# EAGLE library part USB_TYPE-C (library PP_Connectors)
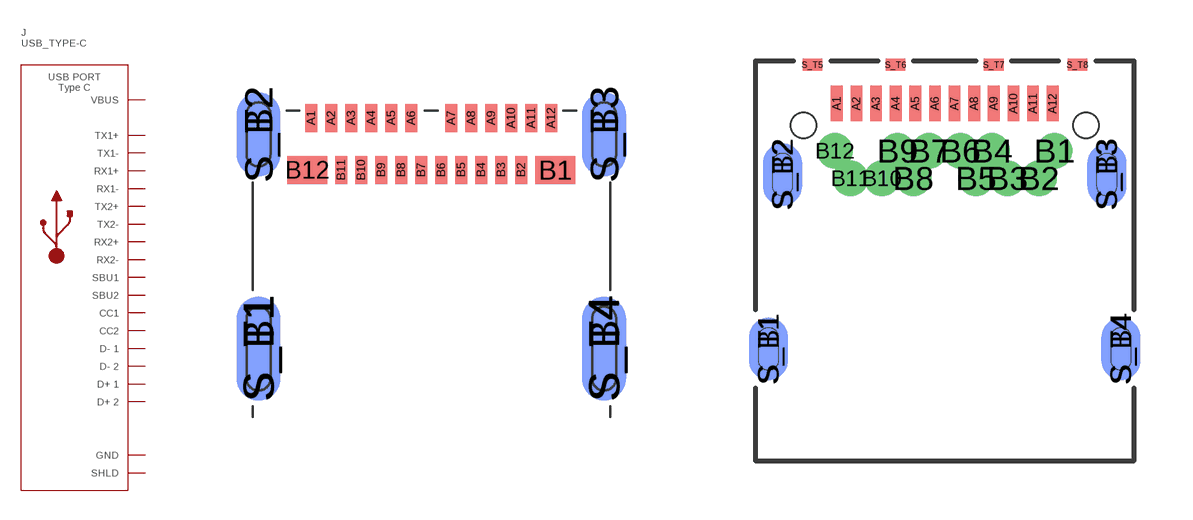
[diagram p24: symbol with the pads of 105450-0101; footprints 105450-0101, 10137061-00021LF]

Designator prefix J

## USB_TYPE-C_105450-0101 (POPULATE: 1)  [105450-0101]
A1  GND
A2  TX1+
A3  TX1-
A4  VBUS
A5  CC1
A6  D+1
A7  D-1
A8  SBU1
A9  VBUS
A10  RX2-
A11  RX2+
A12  GND
B1  GND
B2  TX2+
B3  TX2-
B4  VBUS
B5  CC2
B6  D+2
B7  D-2
B8  SBU2
B9  VBUS
B10  RX1-
B11  RX1+
B12  GND
S_T1  SHLD
S_T2  SHLD
S_T3  SHLD
S_T4  SHLD

## USB_TYPE-C_10137061-00021LF  [10137061-00021LF]
A1  GND
A2  TX1+
A3  TX1-
A4  VBUS
A5  CC1
A6  D+1
A7  D-1
A8  SBU1
A9  VBUS
A10  RX2-
A11  RX2+
A12  GND
B1  GND
B2  TX2+
B3  TX2-
B4  VBUS
B5  CC2
B6  D+2
B7  D-2
B8  SBU2
B9  VBUS
B10  RX1-
B11  RX1+
B12  GND
S_B1  SHLD
S_B2  SHLD
S_B3  SHLD
S_B4  SHLD
S_T1  SHLD
S_T2  SHLD
S_T3  SHLD
S_T4  SHLD
S_T5  SHLD
S_T6  SHLD
S_T7  SHLD
S_T8  SHLD

## USB_TYPE-C_USB4151-GF-C  [USB4151-GF-C]
A1  GND
A2  TX1+
A3  TX1-
A4  VBUS
A5  CC1
A6  D+1
A7  D-1
A8  SBU1
A9  VBUS
A10  RX2-
A11  RX2+
A12  GND
B1  GND
B2  TX2+
B3  TX2-
B4  VBUS
B5  CC2
B6  D+2
B7  D-2
B8  SBU2
B9  VBUS
B10  RX1-
B11  RX1+
B12  GND
P$1  SHLD
P$2  SHLD
P$3  SHLD
P$4  SHLD
P$5  SHLD
P$25  SHLD
P$26  SHLD
P$27  SHLD
P$28  SHLD
P$29  SHLD

## Footprint 105450-0101 (pad centres in mm)
smd 0.3 x 0.7: A1 -3,0.41; A2 -2.5,0.41; A3 -2,0.41; A4 -1.5,0.41; A5 -1,0.41; A6 -0.5,0.41; A7 0.5,0.41; A8 1,0.41; A9 1.5,0.41; A10 2,0.41; A11 2.5,0.41; A12 3,0.41; B2 2.25,-0.89; B3 1.75,-0.89; B4 1.25,-0.89; B5 0.75,-0.89; B6 0.25,-0.89; B7 -0.25,-0.89; B8 -0.75,-0.89; B9 -1.25,-0.89; B10 -1.75,-0.89; B11 -2.25,-0.89
smd 1 x 0.7: B1 3.1,-0.89; B12 -3.1,-0.89
smd 1.1 x 2.6 bottom: S_B1 -4.32,-5.36; S_B4 4.32,-5.36
smd 1.1 x 2.1 bottom: S_B2 -4.32,0; S_B3 4.32,0
smd 1.1 x 2.6: S_T1 -4.32,-5.36; S_T4 4.32,-5.36
smd 1.1 x 2.1: S_T2 -4.32,0; S_T3 4.32,0

## Footprint 10137061-00021LF (pad centres in mm)
smd 0.3 x 0.9: A1 -2.75,0.56; A2 -2.25,0.56; A3 -1.75,0.56; A4 -1.25,0.56; A5 -0.75,0.56; A6 -0.25,0.56; A7 0.25,0.56; A8 0.75,0.56; A9 1.25,0.56; A10 1.75,0.56; A11 2.25,0.56; A12 2.75,0.56
drill 0.4 pad 0.654: B1 2.8,-0.65; B2 2.4,-1.35; B3 1.6,-1.35; B4 1.2,-0.65; B5 0.8,-1.35; B6 0.4,-0.65; B7 -0.4,-0.65; B8 -0.8,-1.35; B9 -1.2,-0.65; B10 -1.6,-1.35; B11 -2.4,-1.35; B12 -2.8,-0.65
smd 1 x 1.6 bottom: S_B1 -4.49,-5.7; S_B2 -4.13,-1.25; S_B3 4.13,-1.25; S_B4 4.49,-5.7
smd 1 x 1.6: S_T1 -4.49,-5.7; S_T2 -4.13,-1.25; S_T3 4.13,-1.25; S_T4 4.49,-5.7
smd 0.5 x 0.3: S_T5 -3.37,1.55; S_T6 -1.25,1.55; S_T7 1.25,1.55; S_T8 3.38,1.55
hole 0.65 at -3.6,0
hole 0.65 at 3.6,0

## Footprint USB4151-GF-C (pad centres in mm)
smd 0.28 x 1.05: A1 2.75,0.925; A2 2.25,0.925; A3 1.75,0.925; A4 1.25,0.925; A5 0.75,0.925; A6 0.25,0.925; A7 -0.25,0.925; A8 -0.75,0.925; A9 -1.25,0.925; A10 -1.75,0.925; A11 -2.25,0.925; A12 -2.75,0.925; B1 -2.75,-0.925; B2 -2.25,-0.925; B3 -1.75,-0.925; B4 -1.25,-0.925; B5 -0.75,-0.925; B6 -0.25,-0.925; B7 0.25,-0.925; B8 0.75,-0.925; B9 1.25,-0.925; B10 1.75,-0.925; B11 2.25,-0.925; B12 2.75,-0.925
smd 1.8 x 0.9 bottom: P$1 -1.75,2.8; P$2 1.75,2.8
smd 1.2 x 0.9 bottom: P$3 4.01,0; P$5 -4.01,0
smd 2.2 x 0.9 bottom: P$4 0,-2.8
smd 2.2 x 0.9: P$25 0,-2.8
smd 1.8 x 0.9: P$26 -1.75,2.8; P$27 1.75,2.8
smd 1.2 x 0.9: P$28 -4.01,0; P$29 4.01,0
hole 0.75 at 3.81,0.925
hole 0.75 at -3.81,-0.925